# Altium schematic symbol library DTM.SchLib: 1 symbol
Pins are listed as number, name and electrical type; pins without a type are passive.

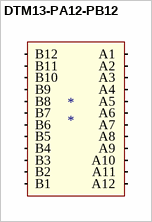
[diagram p0: symbol DTM13-PA12-PB12]

## DTM13-PA12-PB12
designator *
pins: ?1 A1, ?2 A2, ?3 A3, ?4 A4, ?5 A5, ?6 A6, ?7 A7, ?8 A8, ?9 A9, ?10 A10, ?11 A11, ?12 A12, ?13 B1, ?14 B2, ?15 B3, ?16 B4, ?17 B5, ?18 B6, ?19 B7, ?20 B8, ?21 B9, ?22 B10, ?23 B11, ?24 B12